# Altium schematic symbol library SG_SCH_Connectors.SchLib: 80 symbols
Pins are listed as number, name and electrical type; pins without a type are passive.

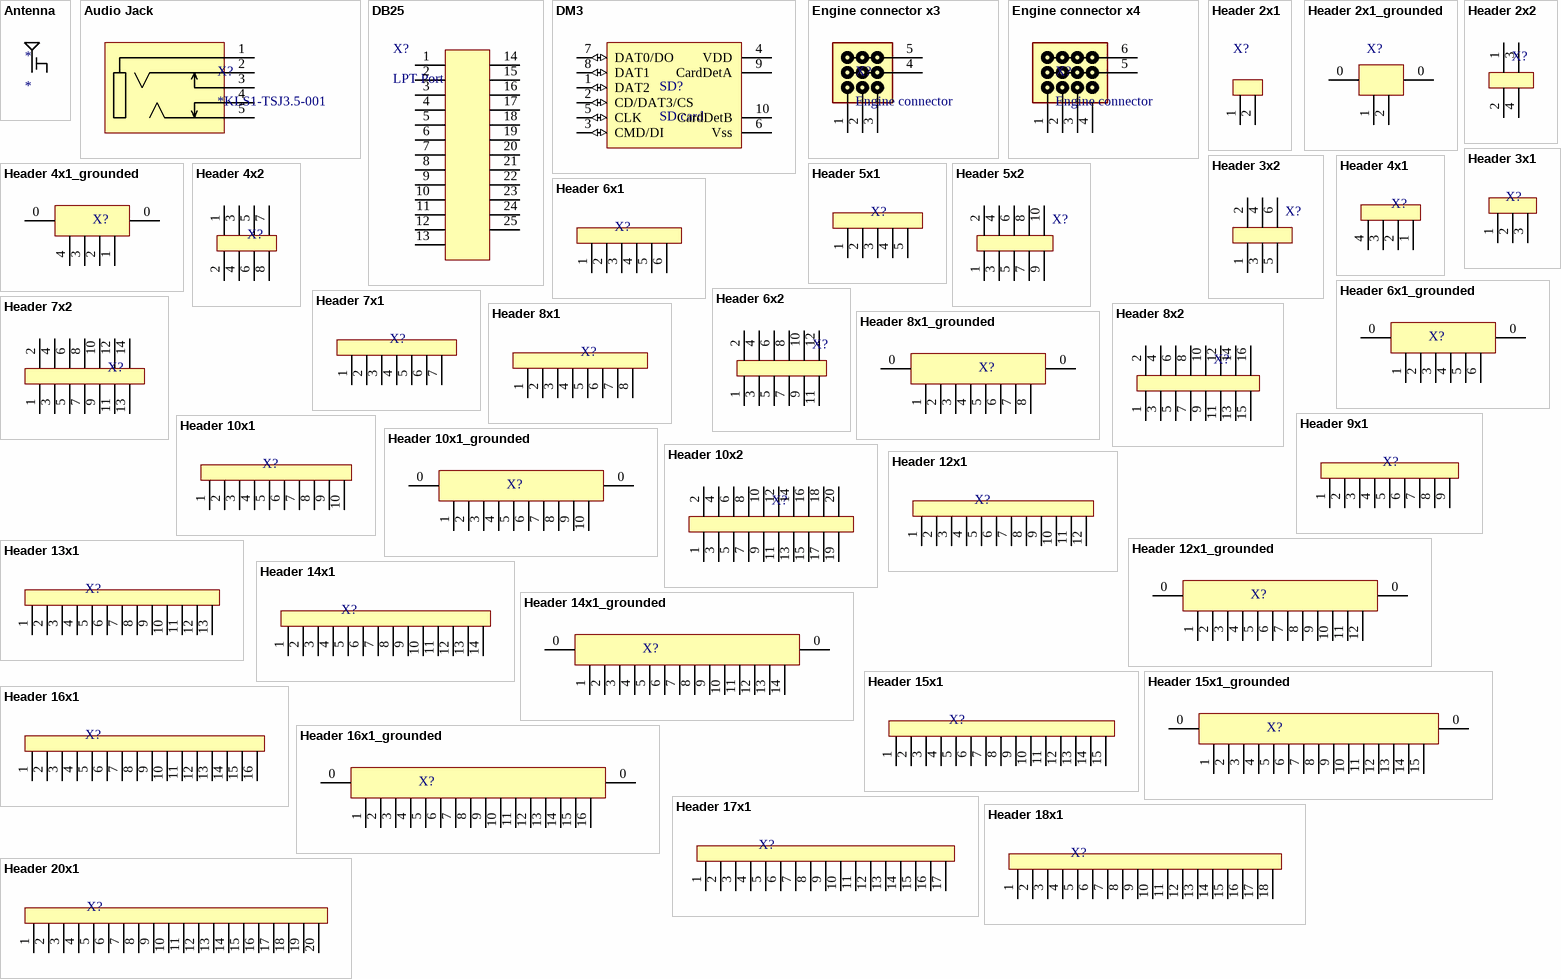
[diagram p0: symbols Antenna to Header 20x1]

## Antenna
designator *
System: Connector; Order: *
footprint SMA_F(R)
pins: 0, 1

## Audio Jack
designator X?, comment *KLS1-TSJ3.5-001
3.5mm audio jack connector; Order: *KLS1-TSJ3.5-001; System: Connector
footprint KLS1-TSJ3.5-001
pins: 1, 2, 3, 4, 5

## DB25
designator X?, comment LPT Port
Order: *DB25-M; System: Connector
footprint DB-25M(board edge)
pins: 1, 2, 3, 4, 5, 6, 7, 8, 9, 10, 11, 12, 13, 14, 15, 16, 17, 18, 19, 20, 21, 22, 23, 24, 25

## DM3
designator SD?, comment SD card
System: Connector; Order: *
footprint DM3BT
pins: 1 DAT2 (io), 2 CD/DAT3/CS (io), 3 CMD/DI (io), 4 VDD (power), 5 CLK (io), 6 Vss (power), 7 DAT0/DO (io), 8 DAT1 (io), 9 CardDetA, 10 CardDetB

## Engine connector x3
designator X?, comment Engine connector
Connector with common power and ground; Order: *; System: Connector
pins: 1, 2, 3, 4, 5

## Engine connector x4
designator X?, comment Engine connector
Connector with common power and ground; Order: *; System: Connector
footprint PLT12 (below); pin to pad 1>S1 2>S2 3>S3 4>S4 5>V 6>G
pins: 1, 2, 3, 4, 5, 6

## Header 2x1
designator X?, comment Header  (value not drawn)
2x1 header; System: Connector; Order: =Footprint
footprint PLS-2-2.54
footprint PLS2R
footprint CWF-2
footprint PLL-2-1.27 (Footprint not found)
footprint WF-2 (Footprint not found)
footprint 2.54 horizontal 2 contacts SMD
footprint MPW-2
pins: 1 (hiz), 2 (hiz)

## Header 2x1_grounded
designator X?, comment Header  (value not drawn)
2x1 header; System: Connector; Order: =Footprint
footprint PLS-2-2.54
footprint PLS2R
footprint CWF-2
footprint PLL-2-1.27 (Footprint not found)
footprint WF-2 (Footprint not found)
footprint 2.54 horizontal 2 contacts SMD
footprint MPW-2
pins: 0 (hiz), 0 (hiz), 1 (hiz), 2 (hiz)

## Header 2x2
designator X?, comment Header  (value not drawn)
2x2 header; System: Connector; Order: =Footprint
footprint PLD4
pins: 1 5 (hiz), 2 3 (hiz), 3 6 (hiz), 4 (hiz)

## Header 3x1
designator X?, comment Header  (value not drawn)
3x1 header; System: Connector; Order: =Footprint
footprint JChoice3
footprint PLS-3-2.54 (Footprint not found)
footprint CWF-3
footprint 2.54 horizontal 3 contacts SMD
pins: 1 (hiz), 2 10 (hiz), 3 11 (hiz)

## Header 3x2
designator X?, comment Header  (value not drawn)
3x2 header; System: Connector; Order: =Footprint
footprint PLD6R
pins: 1 0 (hiz), 2 (hiz), 3 (hiz), 4 (hiz), 5 (hiz), 6 (hiz)

## Header 4x1
designator X?, comment Header  (value not drawn)
4x1 header; System: Connector; Order: =Footprint
footprint PLS-4-2.54
footprint 53261-0471 (Molex PicoBlade horizontal 4p)
footprint 53398-0471 (Molex PicoBlade vertical 4p)
footprint CWF-4
footprint 2.54 horizontal 4 contacts SMD
footprint MPW-4
footprint MPW-4R
pins: 1 10 (hiz), 2 11 (hiz), 3 12 (hiz), 4 13 (hiz)

## Header 4x1_grounded
designator X?, comment Header  (value not drawn)
4x1 header; System: Connector; Order: =Footprint
footprint 53261-0471 (Molex PicoBlade horizontal 4p)
footprint 53398-0471 (Molex PicoBlade vertical 4p)
pins: 0 (hiz), 0 (hiz), 1 (hiz), 2 (hiz), 3 (hiz), 4 (hiz)

## Header 4x2
designator X?, comment Header  (value not drawn)
4x2 header; System: Connector; Order: =Footprint
footprint PLD8 (PLD8 3d up)
footprint PLD8(d) (PLD8 3d down)
pins: 1 (hiz), 2 5 (hiz), 3 2 (hiz), 4 (hiz), 5 3 (hiz), 6 7 (hiz), 7 (hiz), 8 (hiz)

## Header 5x1
designator X?, comment Header  (value not drawn)
5x1 header; System: Connector; Order: =Footprint
footprint PLS-5-2.54
footprint CWF-5
footprint 2.54 horizontal 5 contacts SMD
pins: 1 10 (hiz), 2 11 (hiz), 3 12 (hiz), 4 13 (hiz), 5 14 (hiz)

## Header 5x2
designator X?  (value not drawn)
5x2 header; System: Connector; Order: =Footprint
footprint IDC10
pins: 1 (hiz), 2 (hiz), 3 (hiz), 4 (hiz), 5 (hiz), 6 (hiz), 7 (hiz), 8 (hiz), 9 (hiz), 10 (hiz)

## Header 6x1
designator X?, comment Header  (value not drawn)
6x1 header; System: Connector; Order: =Footprint
footprint PLS-6-2.54
footprint 53261-0671 (Molex PicoBlade horizontal 6p)
footprint 53398-0671 (Molex PicoBlade horizontal 6p)
footprint 2.54 horizontal 6 contacts SMD
footprint SMDwire 2.54x3mm 6pin
footprint JST_SM06B-GHS-TB (Connector Header Surface Mount, Right Angle 6 position 1.25mm)
pins: 1 (hiz), 2 13 (hiz), 3 (hiz), 4 (hiz), 5 (hiz), 6 (hiz)

## Header 6x1_grounded
designator X?, comment Header  (value not drawn)
6x1 header; System: Connector; Order: =Footprint
footprint 53261-0671 (Molex PicoBlade horizontal 6p)
footprint 53398-0671 (Molex PicoBlade horizontal 6p)
footprint JST_SM06B-GHS-TB (Connector Header Surface Mount, Right Angle 6 position 1.25mm)
pins: 0 (hiz), 0 (hiz), 1 (hiz), 2 13 (hiz), 3 (hiz), 4 (hiz), 5 (hiz), 6 (hiz)

## Header 6x2
designator X?  (value not drawn)
6x2 header; System: Connector; Order: =Footprint
footprint Wires_6x2_5mmS_1.2mmH (Wires_AxB_XmmSpacing_YmmHole)
pins: 1 (hiz), 2 (hiz), 3 (hiz), 4 (hiz), 5 (hiz), 6 (hiz), 7 (hiz), 8 (hiz), 9 (hiz), 10 (hiz), 11 (hiz), 12 (hiz)

## Header 7x1
designator X?, comment Header  (value not drawn)
7x1 header; System: Connector; Order: =Footprint
footprint PLS-7-2.54
pins: 1 (hiz), 2 13 (hiz), 3 (hiz), 4 (hiz), 5 (hiz), 6 (hiz), 7 (hiz)

## Header 7x2
designator X?, comment Header  (value not drawn)
7x2 header; System: Connector; Order: =Footprint
footprint IDC-14MS
pins: 1 (hiz), 2 (hiz), 3 (hiz), 4 (hiz), 5 (hiz), 6 (hiz), 7 (hiz), 8 (hiz), 9 (hiz), 10 (hiz), 11 (hiz), 12 (hiz), 13 (hiz), 14 (hiz)

## Header 8x1
designator X?, comment Header  (value not drawn)
8x1 header; System: Connector; Order: =Footprint
footprint PLS-8-2.54
footprint 53261-0871 (Molex PicoBlade horizontal 8p)
footprint 53398-0871 (Molex PicoBlade vertical 8p)
pins: 1 (hiz), 2 (hiz), 3 (hiz), 4 (hiz), 5 (hiz), 6 (hiz), 7 (hiz), 8 (hiz)

## Header 8x1_grounded
designator X?, comment Header  (value not drawn)
8x1 header; System: Connector; Order: =Footprint
footprint 53261-0871 (Molex PicoBlade horizontal 8p)
footprint 53398-0871 (Molex PicoBlade vertical 8p)
pins: 0 (hiz), 0 (hiz), 1 (hiz), 2 (hiz), 3 (hiz), 4 (hiz), 5 (hiz), 6 (hiz), 7 (hiz), 8 (hiz)

## Header 8x2
designator X?  (value not drawn)
8x2 header; System: Connector; Order: =Footprint
footprint IDC16
footprint IDC16R
footprint PLD-16-2.54 (Footprint not found)
footprint 2.54 horizontal 8x2 contacts SMD
footprint 2.54 horizontal 8x2 contacts SMD no overlay
pins: 1 (hiz), 2 (hiz), 3 (hiz), 4 (hiz), 5 (hiz), 6 (hiz), 7 (hiz), 8 (hiz), 9 (hiz), 10 (hiz), 11 (hiz), 12 (hiz), 13 (hiz), 14 (hiz), 15 (hiz), 16 (hiz)

## Header 9x1
designator X?  (value not drawn)
9x1 Header; System: Connector; Order: =Footprint
footprint PLS-9-2.54
pins: 1 (hiz), 2 (hiz), 3 (hiz), 4 (hiz), 5 (hiz), 6 (hiz), 7 (hiz), 8 (hiz), 9 (hiz)

## Header 10x1
designator X?  (value not drawn)
10x1 Header; System: Connector; Order: =Footprint
footprint PLS-10-2.54
pins: 1 (hiz), 2 (hiz), 3 (hiz), 4 (hiz), 5 (hiz), 6 (hiz), 7 (hiz), 8 (hiz), 9 (hiz), 10 (hiz)

## Header 10x1_grounded
designator X?  (value not drawn)
10x1 Header; System: Connector; Order: =Footprint
footprint 53398-1071 (Molex PicoBlade horizontal 10p)
footprint 53261-1071 (Molex PicoBlade horizontal 10p)
pins: 0 (hiz), 0 (hiz), 1 (hiz), 2 (hiz), 3 (hiz), 4 (hiz), 5 (hiz), 6 (hiz), 7 (hiz), 8 (hiz), 9 (hiz), 10 (hiz)

## Header 10x2
designator X?  (value not drawn)
10x2 header; System: Connector; Order: =Footprint
footprint PLD20-2.54 (Footprint not found)
footprint IDC20
footprint IDC20R
pins: 1 (hiz), 2 (hiz), 3 (hiz), 4 (hiz), 5 (hiz), 6 (hiz), 7 (hiz), 8 (hiz), 9 (hiz), 10 (hiz), 11 (hiz), 12 (hiz), 13 (hiz), 14 (hiz), 15 (hiz), 16 (hiz), 17 (hiz), 18 (hiz), 19 (hiz), 20 (hiz)

## Header 12x1
designator X?  (value not drawn)
12x1 Header; System: Connector; Order: =Footprint
footprint PLS-12-2.54 (Footprint not found)
footprint PLL-12-1.27 (Footprint not found)
footprint 53261-1271 (Molex PicoBlade horizontal 12p)
footprint 53398-1271 (Molex PicoBlade vertical 12p)
pins: 1 (hiz), 2 (hiz), 3 (hiz), 4 (hiz), 5 (hiz), 6 (hiz), 7 (hiz), 8 (hiz), 9 (hiz), 10 (hiz), 11 (hiz), 12 (hiz)

## Header 12x1_grounded
designator X?  (value not drawn)
12x1 Header; System: Connector; Order: =Footprint
footprint 53261-1271 (Molex PicoBlade horizontal 12p)
footprint 53398-1271 (Molex PicoBlade vertical 12p)
pins: 0 (hiz), 0 (hiz), 1 (hiz), 2 (hiz), 3 (hiz), 4 (hiz), 5 (hiz), 6 (hiz), 7 (hiz), 8 (hiz), 9 (hiz), 10 (hiz), 11 (hiz), 12 (hiz)

## Header 13x1
designator X?, comment Header  (value not drawn)
13x1 Header; System: Connector; Order: =Footprint
footprint PLS-13-2.54
pins: 1 (hiz), 2 (hiz), 3 (hiz), 4 (hiz), 5 (hiz), 6 (hiz), 7 (hiz), 8 (hiz), 9 (hiz), 10 (hiz), 11 (hiz), 12 (hiz), 13 (hiz)

## Header 14x1
designator X?, comment Header  (value not drawn)
14x1 Header; System: Connector; Order: =Footprint
footprint 53261-1471 (Molex PicoBlade horizontal 14p)
pins: 1 (hiz), 2 (hiz), 3 (hiz), 4 (hiz), 5 (hiz), 6 (hiz), 7 (hiz), 8 (hiz), 9 (hiz), 10 (hiz), 11 (hiz), 12 (hiz), 13 (hiz), 14 (hiz)

## Header 14x1_grounded
designator X?, comment Header  (value not drawn)
14x1 Header; System: Connector; Order: =Footprint
footprint 53261-1471 (Molex PicoBlade horizontal 14p)
pins: 0 (hiz), 0 (hiz), 1 (hiz), 2 (hiz), 3 (hiz), 4 (hiz), 5 (hiz), 6 (hiz), 7 (hiz), 8 (hiz), 9 (hiz), 10 (hiz), 11 (hiz), 12 (hiz), 13 (hiz), 14 (hiz)

## Header 15x1
designator X?, comment Header  (value not drawn)
15x1 Header; System: Connector; Order: =Footprint
pins: 1 (hiz), 2 (hiz), 3 (hiz), 4 (hiz), 5 (hiz), 6 (hiz), 7 (hiz), 8 (hiz), 9 (hiz), 10 (hiz), 11 (hiz), 12 (hiz), 13 (hiz), 14 (hiz), 15 (hiz)

## Header 15x1_grounded
designator X?, comment Header  (value not drawn)
15x1 Header; System: Connector; Order: =Footprint
pins: 0 (hiz), 0 (hiz), 1 (hiz), 2 (hiz), 3 (hiz), 4 (hiz), 5 (hiz), 6 (hiz), 7 (hiz), 8 (hiz), 9 (hiz), 10 (hiz), 11 (hiz), 12 (hiz), 13 (hiz), 14 (hiz), 15 (hiz)

## Header 16x1
designator X?, comment Header  (value not drawn)
16x1 Header; System: Connector; Order: =Footprint
footprint Wires_16x1_2.54mmS_0.9mmH
footprint PLS-16-2.54
pins: 1 (hiz), 2 (hiz), 3 (hiz), 4 (hiz), 5 (hiz), 6 (hiz), 7 (hiz), 8 (hiz), 9 (hiz), 10 (hiz), 11 (hiz), 12 (hiz), 13 (hiz), 14 (hiz), 15 (hiz), 16 (hiz)

## Header 16x1_grounded
designator X?, comment Header  (value not drawn)
16x1 Header; System: Connector; Order: =Footprint
pins: 0 (hiz), 0 (hiz), 1 (hiz), 2 (hiz), 3 (hiz), 4 (hiz), 5 (hiz), 6 (hiz), 7 (hiz), 8 (hiz), 9 (hiz), 10 (hiz), 11 (hiz), 12 (hiz), 13 (hiz), 14 (hiz), 15 (hiz), 16 (hiz)

## Header 17x1
designator X?  (value not drawn)
17x1 Header; System: Connector; Order: =Footprint
footprint PLS-17-2.54 (Footprint not found)
pins: 1 (hiz), 2 (hiz), 3 (hiz), 4 (hiz), 5 (hiz), 6 (hiz), 7 (hiz), 8 (hiz), 9 (hiz), 10 (hiz), 11 (hiz), 12 (hiz), 13 (hiz), 14 (hiz), 15 (hiz), 16 (hiz), 17 (hiz)

## Header 18x1
designator X?  (value not drawn)
18x1 Header; System: Connector; Order: =Footprint
footprint PLS-18-2.54 (Footprint not found)
pins: 1 (hiz), 2 (hiz), 3 (hiz), 4 (hiz), 5 (hiz), 6 (hiz), 7 (hiz), 8 (hiz), 9 (hiz), 10 (hiz), 11 (hiz), 12 (hiz), 13 (hiz), 14 (hiz), 15 (hiz), 16 (hiz), 17 (hiz), 18 (hiz)

## Header 20x1
designator X?  (value not drawn)
20x1 Header; System: Connector; Order: =Footprint
footprint PLS-20-2.54
pins: 1 (hiz), 2 (hiz), 3 (hiz), 4 (hiz), 5 (hiz), 6 (hiz), 7 (hiz), 8 (hiz), 9 (hiz), 10 (hiz), 11 (hiz), 12 (hiz), 13 (hiz), 14 (hiz), 15 (hiz), 16 (hiz), 17 (hiz), 18 (hiz), 19 (hiz), 20 (hiz)

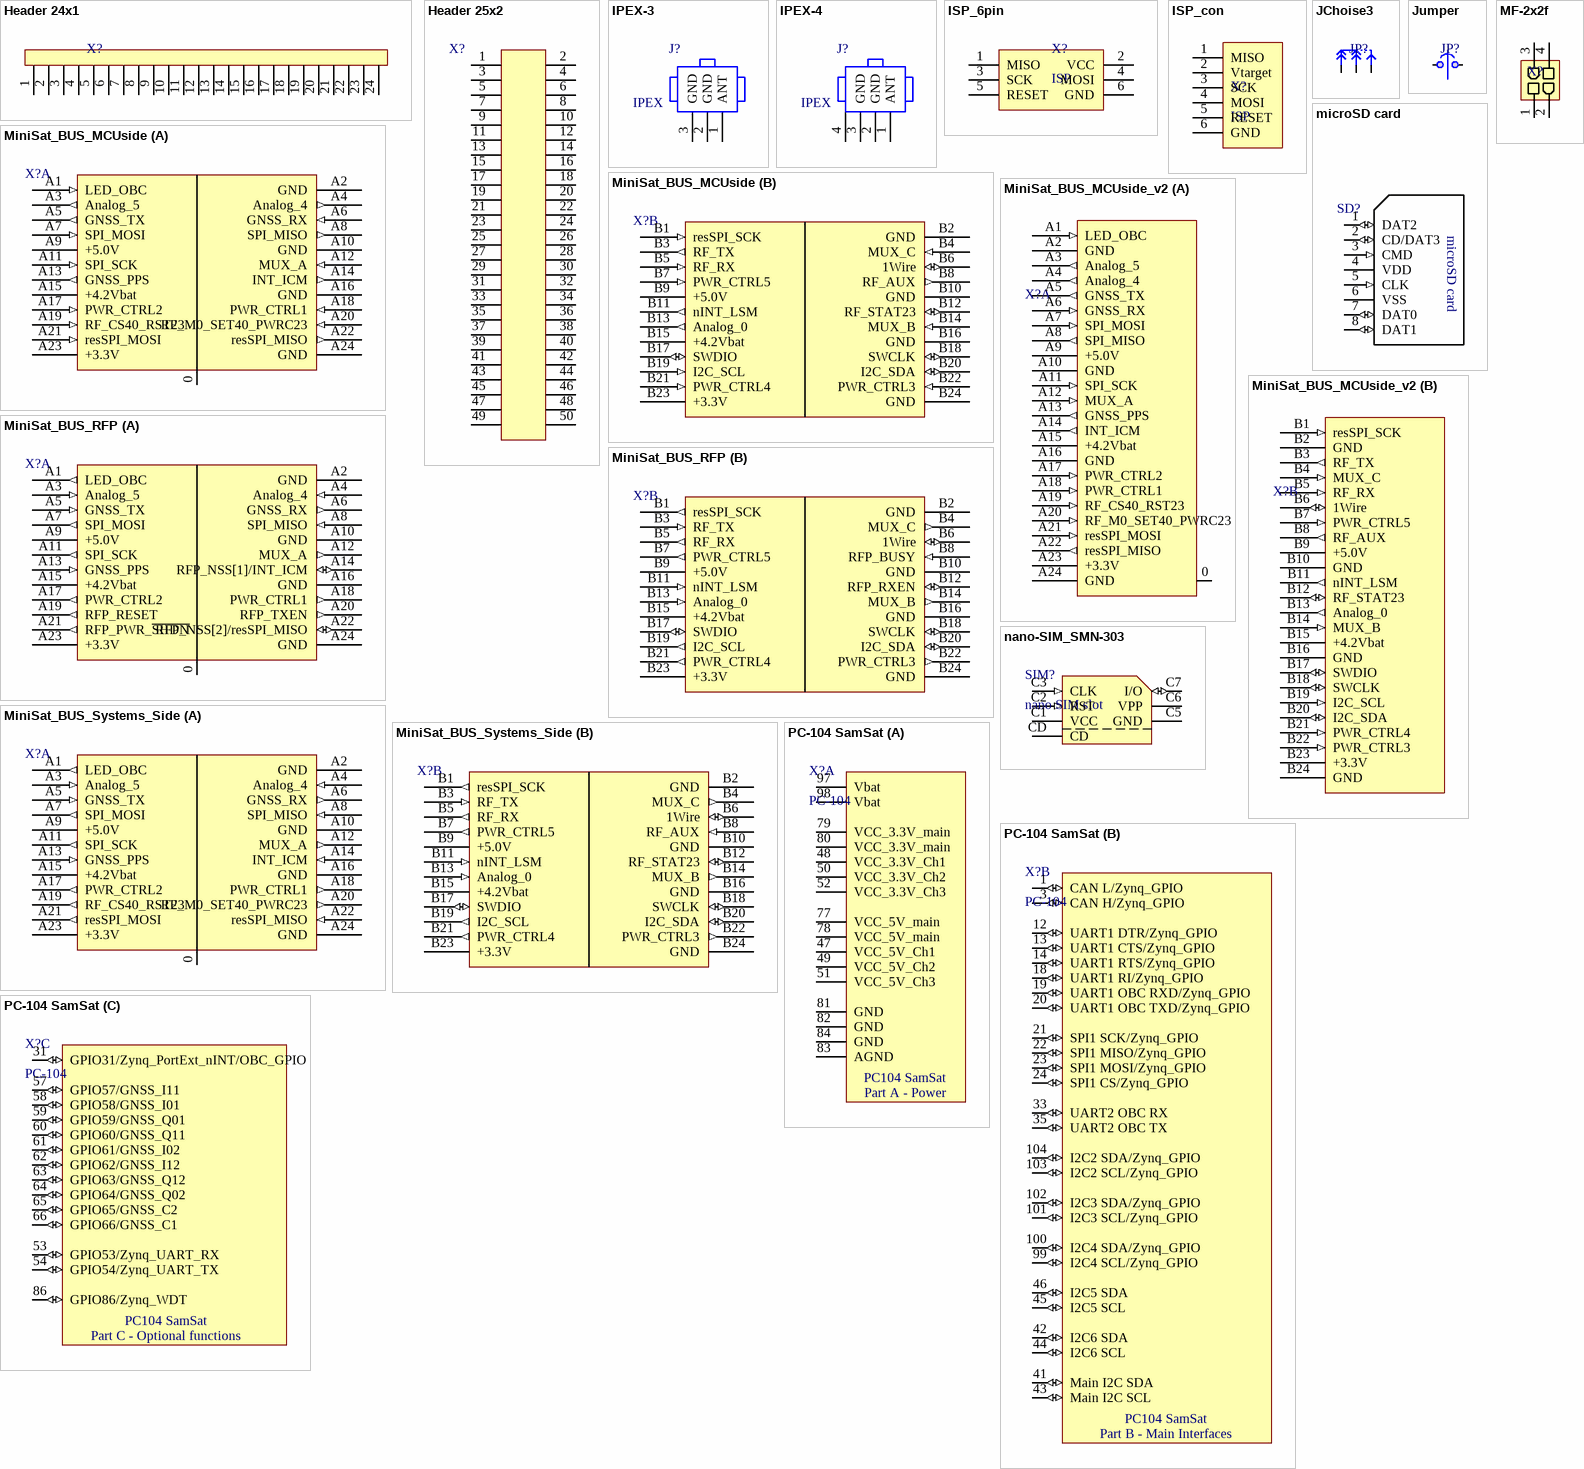
[diagram p1: symbols Header 24x1 to PC-104 SamSat]

## Header 24x1
designator X?  (value not drawn)
20x1 Header; System: Connector; Order: =Footprint
footprint PLS-24-2.54 (Footprint not found)
footprint MiniSat_Maket_side
pins: 1 (hiz), 2 (hiz), 3 (hiz), 4 (hiz), 5 (hiz), 6 (hiz), 7 (hiz), 8 (hiz), 9 (hiz), 10 (hiz), 11 (hiz), 12 (hiz), 13 (hiz), 14 (hiz), 15 (hiz), 16 (hiz), 17 (hiz), 18 (hiz), 19 (hiz), 20 (hiz), 21 (hiz), 22 (hiz), 23 (hiz), 24 (hiz)

## Header 25x2
designator X?  (value not drawn)
25x2 header; System: Connector; Order: =Footprint
pins: 1 (hiz), 2 (hiz), 3 (hiz), 4 (hiz), 5 (hiz), 6 (hiz), 7 (hiz), 8 (hiz), 9 (hiz), 10 (hiz), 11 (hiz), 12 (hiz), 13 (hiz), 14 (hiz), 15 (hiz), 16 (hiz), 17 (hiz), 18 (hiz), 19 (hiz), 20 (hiz), 21 (hiz), 22 (hiz), 23 (hiz), 24 (hiz), 25 (hiz), 26 (hiz), 27 (hiz), 28 (hiz), 29 (hiz), 30 (hiz), 31 (hiz), 32 (hiz), 33 (hiz), 34 (hiz), 35 (hiz), 36 (hiz), 37 (hiz), 38 (hiz), 39 (hiz), 40 (hiz), 41 (hiz), 42 (hiz), 43 (hiz), 44 (hiz), 45 (hiz), 46 (hiz), 47 (hiz), 48 (hiz), 49 (hiz), 50 (hiz)

## IPEX-3
designator J?, comment IPEX
RF Connector, Onboard Receptacle, IPEX MHFIII; HelpURL: http://www.taoglas.com/images/product_images/original_images/RECE.20369.001E.01.pdf; Order: *; System: Connector
footprint IPEX-3 (Hand Drawn, 4-Leads, Body 1.7x1.7mm)
pins: 1 ANT, 2 GND, 3 GND

## IPEX-4
designator J?, comment IPEX
RF Connector, Onboard Receptacle, IPEX MHFIII; HelpURL: http://www.taoglas.com/images/product_images/original_images/RECE.20369.001E.01.pdf; Order: *; System: Connector
footprint IPEX-4 (Hand Drawn, 4-Leads, Body 1.7x1.7mm)
pins: 1 ANT, 2 GND, 3 GND, 4

## ISP_6pin
designator X?, comment ISP
ISP programming connector; Order: *IDC6-MS; System: Connector
footprint IDC-6MS
pins: 1 MISO, 2 VCC, 3 SCK, 4 MOSI, 5 RESET, 6 GND

## ISP_con
designator X?, comment ISP
3x2 header for ISP; System: Connector; Order: *
footprint IDC6
pins: 1 MISO, 2 Vtarget, 3 SCK, 4 MOSI, 5 RESET, 6 GND

## JChoise3
designator JP?
Header 3x1 with jumper; System: Connector; Order: *
footprint JChoice3
pins: 1 21, 2 22, 3 23

## Jumper
designator JP?  (value not drawn)
System: Connector; Order: *
footprint PLS-2-2.54
footprint J-0603
footprint J-0402
footprint J-0805
pins: 1 6 (hiz), 2 7 (hiz)

## MF-2x2f
designator X?  (value not drawn)
System: Connector; Order: *
pins: 1 (hiz), 2 (hiz), 3 (hiz), 4 (hiz)

## microSD card
designator SD?, comment uSD CARD  (value not drawn)
uSD CARD SLOT; System: Connector; Order: *
pins: 1 DAT2 (io), 2 CD/DAT3 (io), 3 CMD (in), 4 VDD (power), 5 CLK (in), 6 VSS (power), 7 DAT0 (io), 8 DAT1 (io)

## MiniSat_BUS_MCUside
designator X?, comment MiniSat main bus  (value not drawn)  (no BOM)
Order: *MiniSatConnectors*; System: Connector
footprint MiniSatConnector
part A pins: 0 GND, A1 LED_OBC (in), A2 GND (power), A3 Analog_5 (out), A4 Analog_4 (out), A5 GNSS_TX (out), A6 GNSS_RX (in), A7 SPI_MOSI (in), A8 SPI_MISO (out), A9 +5.0V (power), A10 GND (power), A11 SPI_SCK (in), A12 MUX_A (in), A13 GNSS_PPS (out), A14 INT_ICM (out), A15 +4.2Vbat (power), A16 GND (power), A17 PWR_CTRL2 (in), A18 PWR_CTRL1 (in), A19 RF_CS40_RST23 (in), A20 RF_M0_SET40_PWRC23 (in), A21 resSPI_MOSI (in), A22 resSPI_MISO (out), A23 +3.3V (power), A24 GND (power)
part B pins: B1 resSPI_SCK (in), B2 GND (power), B3 RF_TX (out), B4 MUX_C (in), B5 RF_RX (in), B6 1Wire (io), B7 PWR_CTRL5 (in), B8 RF_AUX (out), B9 +5.0V (power), B10 GND (power), B11 nINT_LSM (out), B12 RF_STAT23 (io), B13 Analog_0 (out), B14 MUX_B (in), B15 +4.2Vbat (power), B16 GND (power), B17 SWDIO (io), B18 SWCLK (io), B19 I2C_SCL (in), B20 I2C_SDA (io), B21 PWR_CTRL4 (in), B22 PWR_CTRL3 (in), B23 +3.3V (power), B24 GND (power)

## MiniSat_BUS_MCUside_v2
designator X?, comment MiniSat main bus  (value not drawn)  (no BOM)
Order: *MiniSatConnectors*; System: Connector
footprint MiniSatConnector
part A pins: 0 GND, A1 LED_OBC (in), A2 GND (power), A3 Analog_5 (out), A4 Analog_4 (out), A5 GNSS_TX (out), A6 GNSS_RX (in), A7 SPI_MOSI (in), A8 SPI_MISO (out), A9 +5.0V (power), A10 GND (power), A11 SPI_SCK (in), A12 MUX_A (in), A13 GNSS_PPS (out), A14 INT_ICM (out), A15 +4.2Vbat (power), A16 GND (power), A17 PWR_CTRL2 (in), A18 PWR_CTRL1 (in), A19 RF_CS40_RST23 (in), A20 RF_M0_SET40_PWRC23 (in), A21 resSPI_MOSI (in), A22 resSPI_MISO (out), A23 +3.3V (power), A24 GND (power)
part B pins: B1 resSPI_SCK (in), B2 GND (power), B3 RF_TX (out), B4 MUX_C (in), B5 RF_RX (in), B6 1Wire (io), B7 PWR_CTRL5 (in), B8 RF_AUX (out), B9 +5.0V (power), B10 GND (power), B11 nINT_LSM (out), B12 RF_STAT23 (io), B13 Analog_0 (out), B14 MUX_B (in), B15 +4.2Vbat (power), B16 GND (power), B17 SWDIO (io), B18 SWCLK (io), B19 I2C_SCL (in), B20 I2C_SDA (io), B21 PWR_CTRL4 (in), B22 PWR_CTRL3 (in), B23 +3.3V (power), B24 GND (power)

## MiniSat_BUS_RFP
designator X?, comment MiniSat main bus  (value not drawn)  (no BOM)
Order: *MiniSatConnectors*; System: Connector
footprint MiniSatConnector
part A pins: 0 GND, A1 LED_OBC (out), A2 GND (power), A3 Analog_5 (in), A4 Analog_4 (in), A5 GNSS_TX (in), A6 GNSS_RX (out), A7 SPI_MOSI (out), A8 SPI_MISO (in), A9 +5.0V (power), A10 GND (power), A11 SPI_SCK (out), A12 MUX_A (out), A13 GNSS_PPS (in), A14 RFP_NSS[1]/INT_ICM (io), A15 +4.2Vbat (power), A16 GND (power), A17 PWR_CTRL2 (out), A18 PWR_CTRL1 (out), A19 RFP_RESET (out), A20 RFP_TXEN (out), A21 RFP_PWR_~{SHDN} (out), A22 RFP_NSS[2]/resSPI_MISO (io), A23 +3.3V (power), A24 GND (power)
part B pins: B1 resSPI_SCK (out), B2 GND (power), B3 RF_TX (in), B4 MUX_C (out), B5 RF_RX (out), B6 1Wire (io), B7 PWR_CTRL5 (out), B8 RFP_BUSY (in), B9 +5.0V (power), B10 GND (power), B11 nINT_LSM (in), B12 RFP_RXEN (io), B13 Analog_0 (in), B14 MUX_B (out), B15 +4.2Vbat (power), B16 GND (power), B17 SWDIO (io), B18 SWCLK (io), B19 I2C_SCL (out), B20 I2C_SDA (io), B21 PWR_CTRL4 (out), B22 PWR_CTRL3 (out), B23 +3.3V (power), B24 GND (power)

## MiniSat_BUS_Systems_Side
designator X?, comment MiniSat main bus  (value not drawn)  (no BOM)
Order: *MiniSatConnectors*; System: Connector
footprint MiniSatConnector
part A pins: 0 GND, A1 LED_OBC (out), A2 GND (power), A3 Analog_5 (in), A4 Analog_4 (in), A5 GNSS_TX (in), A6 GNSS_RX (out), A7 SPI_MOSI (out), A8 SPI_MISO (in), A9 +5.0V (power), A10 GND (power), A11 SPI_SCK (out), A12 MUX_A (out), A13 GNSS_PPS (in), A14 INT_ICM (in), A15 +4.2Vbat (power), A16 GND (power), A17 PWR_CTRL2 (out), A18 PWR_CTRL1 (out), A19 RF_CS40_RST23 (out), A20 RF_M0_SET40_PWRC23 (out), A21 resSPI_MOSI (out), A22 resSPI_MISO (in), A23 +3.3V (power), A24 GND (power)
part B pins: B1 resSPI_SCK (out), B2 GND (power), B3 RF_TX (in), B4 MUX_C (out), B5 RF_RX (out), B6 1Wire (io), B7 PWR_CTRL5 (out), B8 RF_AUX (in), B9 +5.0V (power), B10 GND (power), B11 nINT_LSM (in), B12 RF_STAT23 (io), B13 Analog_0 (in), B14 MUX_B (out), B15 +4.2Vbat (power), B16 GND (power), B17 SWDIO (io), B18 SWCLK (io), B19 I2C_SCL (out), B20 I2C_SDA (io), B21 PWR_CTRL4 (out), B22 PWR_CTRL3 (out), B23 +3.3V (power), B24 GND (power)

## nano-SIM_SMN-303
designator SIM?, comment nano SIM slot
System: Connector; Order: *
pins: C1 VCC (power), C2 RST (in), C3 CLK (in), C5 GND (power), C6 VPP (power), C7 I/O (io), CD (oc)

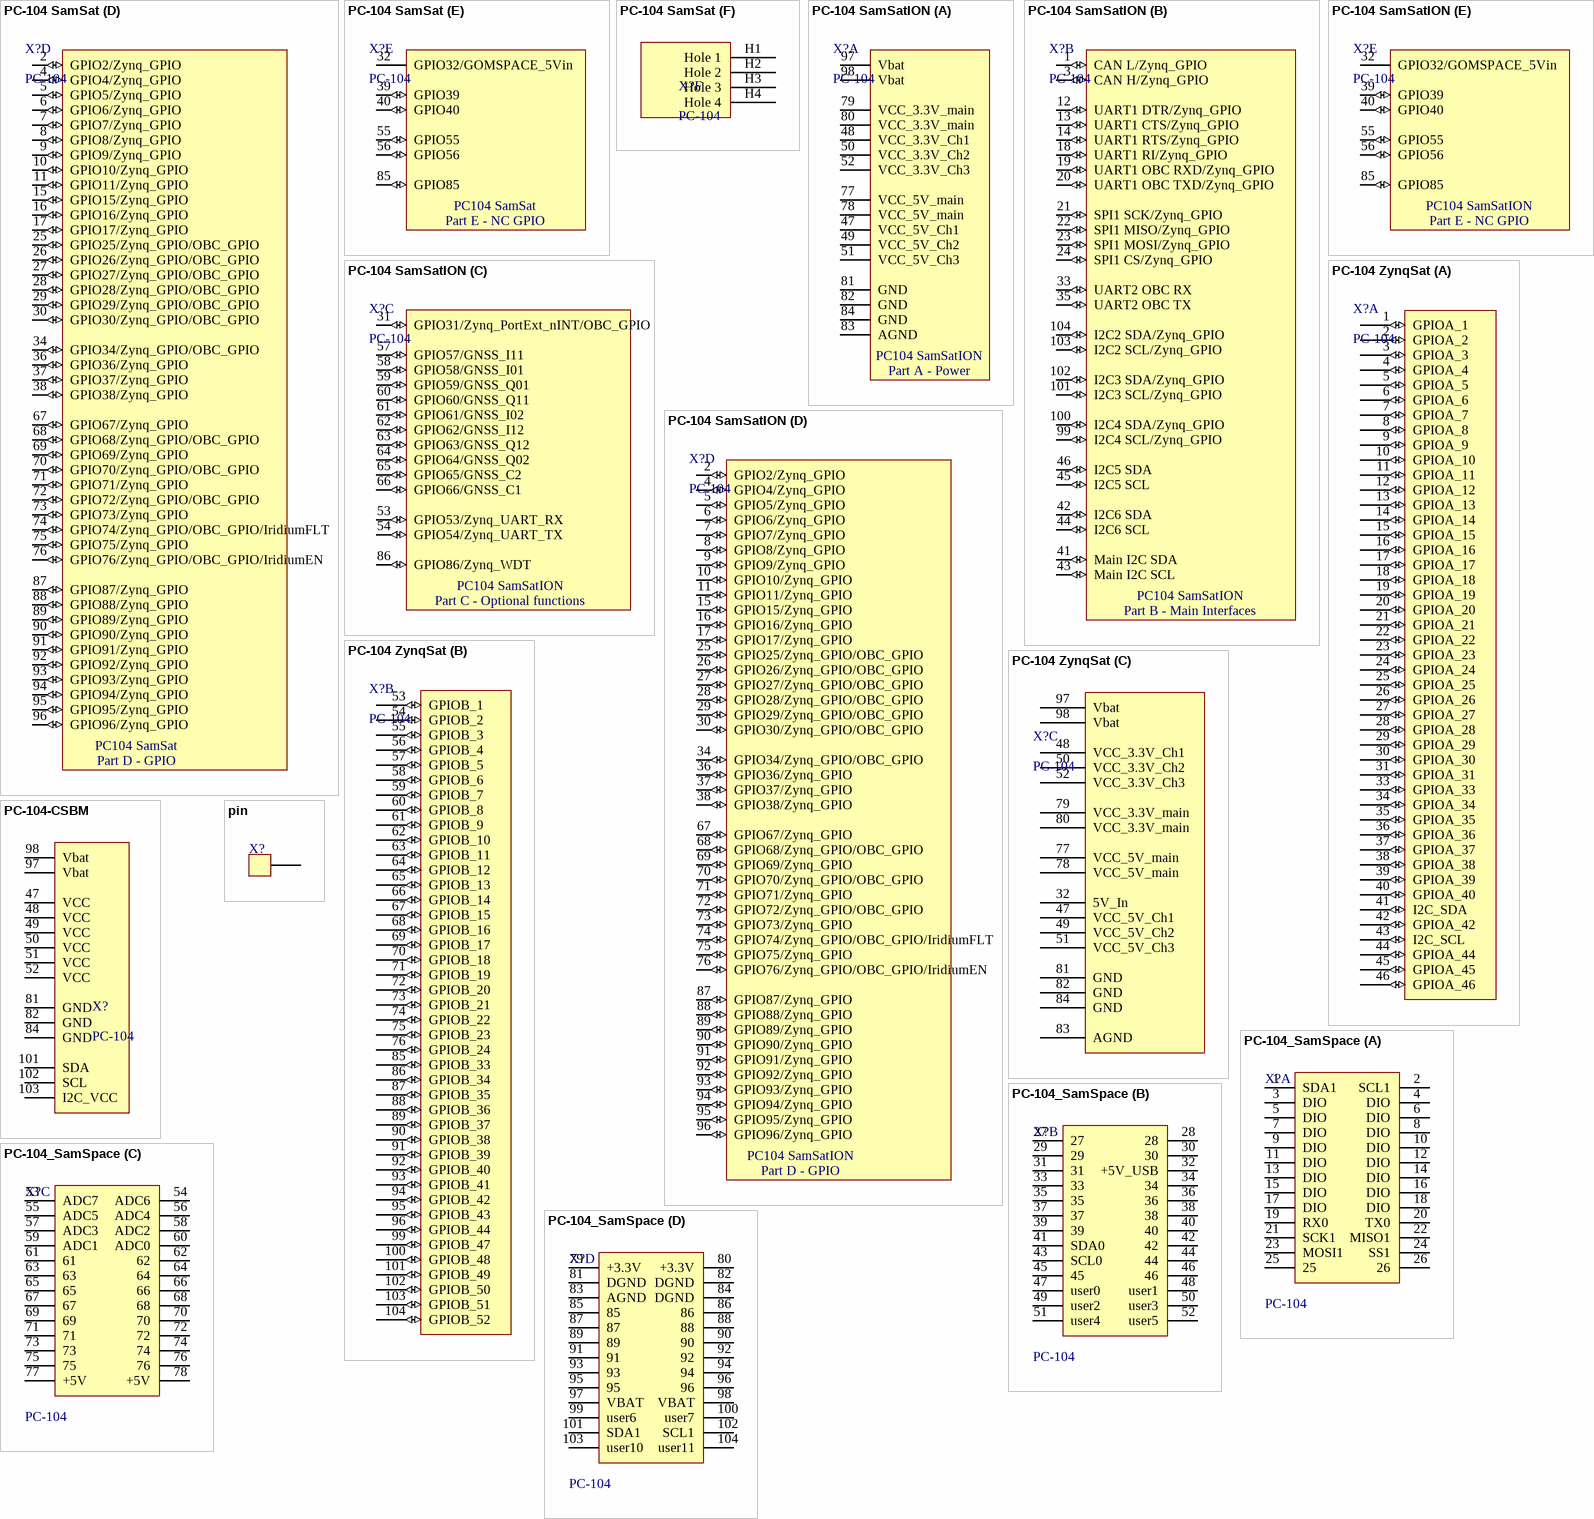
[diagram p2: symbols PC-104 SamSat to pin]

## PC-104 SamSat
designator X?, comment PC-104
Order: *ESQ-126-39-G-D; System: Connector
footprint PC-104 (PC104)
footprint SamSat-PC104
footprint SamSat-PC104-BottomOnly
footprint SamSat-PC104-TopOnly
part A pins: 47 VCC_5V_Ch1 (power), 48 VCC_3.3V_Ch1 (power), 49 VCC_5V_Ch2 (power), 50 VCC_3.3V_Ch2 (power), 51 VCC_5V_Ch3 (power), 52 VCC_3.3V_Ch3 (power), 77 VCC_5V_main (power), 78 VCC_5V_main (power), 79 VCC_3.3V_main (power), 80 VCC_3.3V_main (power), 81 GND (power), 82 GND (power), 83 AGND (power), 84 GND (power), 97 Vbat (power), 98 Vbat (power)
part B pins: 1 CAN L/Zynq_GPIO (io), 3 CAN H/Zynq_GPIO (io), 12 UART1 DTR/Zynq_GPIO (io), 13 UART1 CTS/Zynq_GPIO (io), 14 UART1 RTS/Zynq_GPIO (io), 18 UART1 RI/Zynq_GPIO (io), 19 UART1 OBC RXD/Zynq_GPIO (io), 20 UART1 OBC TXD/Zynq_GPIO (io), 21 SPI1 SCK/Zynq_GPIO (io), 22 SPI1 MISO/Zynq_GPIO (io), 23 SPI1 MOSI/Zynq_GPIO (io), 24 SPI1 CS/Zynq_GPIO (io), 33 UART2 OBC RX (io), 35 UART2 OBC TX (io), 41 Main I2C SDA (io), 42 I2C6 SDA (io), 43 Main I2C SCL (io), 44 I2C6 SCL (io), 45 I2C5 SCL (io), 46 I2C5 SDA (io), 99 I2C4 SCL/Zynq_GPIO (io), 100 I2C4 SDA/Zynq_GPIO (io), 101 I2C3 SCL/Zynq_GPIO (io), 102 I2C3 SDA/Zynq_GPIO (io), 103 I2C2 SCL/Zynq_GPIO (io), 104 I2C2 SDA/Zynq_GPIO (io)
part C pins: 31 GPIO31/Zynq_PortExt_nINT/OBC_GPIO (io), 53 GPIO53/Zynq_UART_RX (io), 54 GPIO54/Zynq_UART_TX (io), 57 GPIO57/GNSS_I11 (io), 58 GPIO58/GNSS_I01 (io), 59 GPIO59/GNSS_Q01 (io), 60 GPIO60/GNSS_Q11 (io), 61 GPIO61/GNSS_I02 (io), 62 GPIO62/GNSS_I12 (io), 63 GPIO63/GNSS_Q12 (io), 64 GPIO64/GNSS_Q02 (io), 65 GPIO65/GNSS_C2 (io), 66 GPIO66/GNSS_C1 (io), 86 GPIO86/Zynq_WDT (io)
part D pins: 2 GPIO2/Zynq_GPIO (io), 4 GPIO4/Zynq_GPIO (io), 5 GPIO5/Zynq_GPIO (io), 6 GPIO6/Zynq_GPIO (io), 7 GPIO7/Zynq_GPIO (io), 8 GPIO8/Zynq_GPIO (io), 9 GPIO9/Zynq_GPIO (io), 10 GPIO10/Zynq_GPIO (io), 11 GPIO11/Zynq_GPIO (io), 15 GPIO15/Zynq_GPIO (io), 16 GPIO16/Zynq_GPIO (io), 17 GPIO17/Zynq_GPIO (io), 25 GPIO25/Zynq_GPIO/OBC_GPIO (io), 26 GPIO26/Zynq_GPIO/OBC_GPIO (io), 27 GPIO27/Zynq_GPIO/OBC_GPIO (io), 28 GPIO28/Zynq_GPIO/OBC_GPIO (io), 29 GPIO29/Zynq_GPIO/OBC_GPIO (io), 30 GPIO30/Zynq_GPIO/OBC_GPIO (io), 34 GPIO34/Zynq_GPIO/OBC_GPIO (io), 36 GPIO36/Zynq_GPIO (io), 37 GPIO37/Zynq_GPIO (io), 38 GPIO38/Zynq_GPIO (io), 67 GPIO67/Zynq_GPIO (io), 68 GPIO68/Zynq_GPIO/OBC_GPIO (io), 69 GPIO69/Zynq_GPIO (io), 70 GPIO70/Zynq_GPIO/OBC_GPIO (io), 71 GPIO71/Zynq_GPIO (io), 72 GPIO72/Zynq_GPIO/OBC_GPIO (io), 73 GPIO73/Zynq_GPIO (io), 74 GPIO74/Zynq_GPIO/OBC_GPIO/IridiumFLT (io), 75 GPIO75/Zynq_GPIO (io), 76 GPIO76/Zynq_GPIO/OBC_GPIO/IridiumEN (io), 87 GPIO87/Zynq_GPIO (io), 88 GPIO88/Zynq_GPIO (io), 89 GPIO89/Zynq_GPIO (io), 90 GPIO90/Zynq_GPIO (io), 91 GPIO91/Zynq_GPIO (io), 92 GPIO92/Zynq_GPIO (io), 93 GPIO93/Zynq_GPIO (io), 94 GPIO94/Zynq_GPIO (io), 95 GPIO95/Zynq_GPIO (io), 96 GPIO96/Zynq_GPIO (io)
part E pins: 32 GPIO32/GOMSPACE_5Vin (power), 39 GPIO39 (io), 40 GPIO40 (io), 55 GPIO55 (io), 56 GPIO56 (io), 85 GPIO85 (io)
part F pins: H1 Hole 1 (power), H2 Hole 2 (power), H3 Hole 3 (power), H4 Hole 4 (power)
part A text: PC104 SamSat; Part A - Power
part B text: PC104 SamSat; Part B - Main Interfaces
part C text: PC104 SamSat; Part C - Optional functions
part D text: PC104 SamSat; Part D - GPIO
part E text: PC104 SamSat; Part E - NC GPIO

## PC-104 SamSatION
designator X?, comment PC-104
Order: *ESQ-126-39-G-D; System: Connector
footprint PC-104 (PC104)
part A pins: 47 VCC_5V_Ch1 (power), 48 VCC_3.3V_Ch1 (power), 49 VCC_5V_Ch2 (power), 50 VCC_3.3V_Ch2 (power), 51 VCC_5V_Ch3 (power), 52 VCC_3.3V_Ch3 (power), 77 VCC_5V_main (power), 78 VCC_5V_main (power), 79 VCC_3.3V_main (power), 80 VCC_3.3V_main (power), 81 GND (power), 82 GND (power), 83 AGND (power), 84 GND (power), 97 Vbat (power), 98 Vbat (power)
part B pins: 1 CAN L/Zynq_GPIO (io), 3 CAN H/Zynq_GPIO (io), 12 UART1 DTR/Zynq_GPIO (io), 13 UART1 CTS/Zynq_GPIO (io), 14 UART1 RTS/Zynq_GPIO (io), 18 UART1 RI/Zynq_GPIO (io), 19 UART1 OBC RXD/Zynq_GPIO (io), 20 UART1 OBC TXD/Zynq_GPIO (io), 21 SPI1 SCK/Zynq_GPIO (io), 22 SPI1 MISO/Zynq_GPIO (io), 23 SPI1 MOSI/Zynq_GPIO (io), 24 SPI1 CS/Zynq_GPIO (io), 33 UART2 OBC RX (io), 35 UART2 OBC TX (io), 41 Main I2C SDA (io), 42 I2C6 SDA (io), 43 Main I2C SCL (io), 44 I2C6 SCL (io), 45 I2C5 SCL (io), 46 I2C5 SDA (io), 99 I2C4 SCL/Zynq_GPIO (io), 100 I2C4 SDA/Zynq_GPIO (io), 101 I2C3 SCL/Zynq_GPIO (io), 102 I2C3 SDA/Zynq_GPIO (io), 103 I2C2 SCL/Zynq_GPIO (io), 104 I2C2 SDA/Zynq_GPIO (io)
part C pins: 31 GPIO31/Zynq_PortExt_nINT/OBC_GPIO (io), 53 GPIO53/Zynq_UART_RX (io), 54 GPIO54/Zynq_UART_TX (io), 57 GPIO57/GNSS_I11 (io), 58 GPIO58/GNSS_I01 (io), 59 GPIO59/GNSS_Q01 (io), 60 GPIO60/GNSS_Q11 (io), 61 GPIO61/GNSS_I02 (io), 62 GPIO62/GNSS_I12 (io), 63 GPIO63/GNSS_Q12 (io), 64 GPIO64/GNSS_Q02 (io), 65 GPIO65/GNSS_C2 (io), 66 GPIO66/GNSS_C1 (io), 86 GPIO86/Zynq_WDT (io)
part D pins: 2 GPIO2/Zynq_GPIO (io), 4 GPIO4/Zynq_GPIO (io), 5 GPIO5/Zynq_GPIO (io), 6 GPIO6/Zynq_GPIO (io), 7 GPIO7/Zynq_GPIO (io), 8 GPIO8/Zynq_GPIO (io), 9 GPIO9/Zynq_GPIO (io), 10 GPIO10/Zynq_GPIO (io), 11 GPIO11/Zynq_GPIO (io), 15 GPIO15/Zynq_GPIO (io), 16 GPIO16/Zynq_GPIO (io), 17 GPIO17/Zynq_GPIO (io), 25 GPIO25/Zynq_GPIO/OBC_GPIO (io), 26 GPIO26/Zynq_GPIO/OBC_GPIO (io), 27 GPIO27/Zynq_GPIO/OBC_GPIO (io), 28 GPIO28/Zynq_GPIO/OBC_GPIO (io), 29 GPIO29/Zynq_GPIO/OBC_GPIO (io), 30 GPIO30/Zynq_GPIO/OBC_GPIO (io), 34 GPIO34/Zynq_GPIO/OBC_GPIO (io), 36 GPIO36/Zynq_GPIO (io), 37 GPIO37/Zynq_GPIO (io), 38 GPIO38/Zynq_GPIO (io), 67 GPIO67/Zynq_GPIO (io), 68 GPIO68/Zynq_GPIO/OBC_GPIO (io), 69 GPIO69/Zynq_GPIO (io), 70 GPIO70/Zynq_GPIO/OBC_GPIO (io), 71 GPIO71/Zynq_GPIO (io), 72 GPIO72/Zynq_GPIO/OBC_GPIO (io), 73 GPIO73/Zynq_GPIO (io), 74 GPIO74/Zynq_GPIO/OBC_GPIO/IridiumFLT (io), 75 GPIO75/Zynq_GPIO (io), 76 GPIO76/Zynq_GPIO/OBC_GPIO/IridiumEN (io), 87 GPIO87/Zynq_GPIO (io), 88 GPIO88/Zynq_GPIO (io), 89 GPIO89/Zynq_GPIO (io), 90 GPIO90/Zynq_GPIO (io), 91 GPIO91/Zynq_GPIO (io), 92 GPIO92/Zynq_GPIO (io), 93 GPIO93/Zynq_GPIO (io), 94 GPIO94/Zynq_GPIO (io), 95 GPIO95/Zynq_GPIO (io), 96 GPIO96/Zynq_GPIO (io)
part E pins: 32 GPIO32/GOMSPACE_5Vin (power), 39 GPIO39 (io), 40 GPIO40 (io), 55 GPIO55 (io), 56 GPIO56 (io), 85 GPIO85 (io)
part A text: PC104 SamSatION; Part A - Power
part B text: PC104 SamSatION; Part B - Main Interfaces
part C text: PC104 SamSatION; Part C - Optional functions
part D text: PC104 SamSatION; Part D - GPIO
part E text: PC104 SamSatION; Part E - NC GPIO

## PC-104 ZynqSat
designator X?, comment PC-104
Order: *ESQ-126-39-G-D; System: Connector
part A pins: 1 GPIOA_1 (io), 2 GPIOA_2 (io), 3 GPIOA_3 (io), 4 GPIOA_4 (io), 5 GPIOA_5 (io), 6 GPIOA_6 (io), 7 GPIOA_7 (io), 8 GPIOA_8 (io), 9 GPIOA_9 (io), 10 GPIOA_10 (io), 11 GPIOA_11 (io), 12 GPIOA_12 (io), 13 GPIOA_13 (io), 14 GPIOA_14 (io), 15 GPIOA_15 (io), 16 GPIOA_16 (io), 17 GPIOA_17 (io), 18 GPIOA_18 (io), 19 GPIOA_19 (io), 20 GPIOA_20 (io), 21 GPIOA_21 (io), 22 GPIOA_22 (io), 23 GPIOA_23 (io), 24 GPIOA_24 (io), 25 GPIOA_25 (io), 26 GPIOA_26 (io), 27 GPIOA_27 (io), 28 GPIOA_28 (io), 29 GPIOA_29 (io), 30 GPIOA_30 (io), 31 GPIOA_31 (io), 33 GPIOA_33 (io), 34 GPIOA_34 (io), 35 GPIOA_35 (io), 36 GPIOA_36 (io), 37 GPIOA_37 (io), 38 GPIOA_38 (io), 39 GPIOA_39 (io), 40 GPIOA_40 (io), 41 I2C_SDA (io), 42 GPIOA_42 (io), 43 I2C_SCL (io), 44 GPIOA_44 (io), 45 GPIOA_45 (io), 46 GPIOA_46 (io)
part B pins: 53 GPIOB_1 (io), 54 GPIOB_2 (io), 55 GPIOB_3 (io), 56 GPIOB_4 (io), 57 GPIOB_5 (io), 58 GPIOB_6 (io), 59 GPIOB_7 (io), 60 GPIOB_8 (io), 61 GPIOB_9 (io), 62 GPIOB_10 (io), 63 GPIOB_11 (io), 64 GPIOB_12 (io), 65 GPIOB_13 (io), 66 GPIOB_14 (io), 67 GPIOB_15 (io), 68 GPIOB_16 (io), 69 GPIOB_17 (io), 70 GPIOB_18 (io), 71 GPIOB_19 (io), 72 GPIOB_20 (io), 73 GPIOB_21 (io), 74 GPIOB_22 (io), 75 GPIOB_23 (io), 76 GPIOB_24 (io), 85 GPIOB_33 (io), 86 GPIOB_34 (io), 87 GPIOB_35 (io), 88 GPIOB_36 (io), 89 GPIOB_37 (io), 90 GPIOB_38 (io), 91 GPIOB_39 (io), 92 GPIOB_40 (io), 93 GPIOB_41 (io), 94 GPIOB_42 (io), 95 GPIOB_43 (io), 96 GPIOB_44 (io), 99 GPIOB_47 (io), 100 GPIOB_48 (io), 101 GPIOB_49 (io), 102 GPIOB_50 (io), 103 GPIOB_51 (io), 104 GPIOB_52 (io)
part C pins: 32 5V_In (power), 47 VCC_5V_Ch1 (power), 48 VCC_3.3V_Ch1 (power), 49 VCC_5V_Ch2 (power), 50 VCC_3.3V_Ch2 (power), 51 VCC_5V_Ch3 (power), 52 VCC_3.3V_Ch3 (power), 77 VCC_5V_main (power), 78 VCC_5V_main (power), 79 VCC_3.3V_main (power), 80 VCC_3.3V_main (power), 81 GND (power), 82 GND (power), 83 AGND (power), 84 GND (power), 97 Vbat (power), 98 Vbat (power)

## PC-104-CSBM
designator X?, comment PC-104
PC-104 simplified connector; Order: *PC-104; System: Connector
footprint PC-104 (PC104)
pins: 47 VCC (power), 48 VCC (power), 49 VCC (power), 50 VCC (power), 51 VCC (power), 52 VCC (power), 81 GND (power), 82 GND (power), 84 GND (power), 97 Vbat (power), 98 Vbat (power), 101 SDA (oc), 102 SCL (oc), 103 I2C_VCC (power)

## PC-104_SamSpace
designator X?, comment PC-104
SamSpace; Order: *PC-104; System: Connector
footprint HDR2X13 (Connector; Header; 13x2 Position)
signal-integrity model Connector
footprint PC-104 (PC104)
part A pins: 1 SDA1, 2 SCL1, 3 DIO, 4 DIO, 5 DIO, 6 DIO, 7 DIO, 8 DIO, 9 DIO, 10 DIO, 11 DIO, 12 DIO, 13 DIO, 14 DIO, 15 DIO, 16 DIO, 17 DIO, 18 DIO, 19 RX0, 20 TX0, 21 SCK1, 22 MISO1, 23 MOSI1, 24 SS1, 25, 26
part B pins: 27, 28, 29, 30, 31, 32 +5V_USB, 33, 34, 35, 36, 37, 38, 39, 40, 41 SDA0, 42, 43 SCL0, 44, 45, 46, 47 user0, 48 user1, 49 user2, 50 user3, 51 user4, 52 user5
part C pins: 53 ADC7, 54 ADC6, 55 ADC5, 56 ADC4, 57 ADC3, 58 ADC2, 59 ADC1, 60 ADC0, 61, 62, 63, 64, 65, 66, 67, 68, 69, 70, 71, 72, 73, 74, 75, 76, 77 +5V, 78 +5V
part D pins: 79 +3.3V, 80 +3.3V, 81 DGND, 82 DGND, 83 AGND, 84 DGND, 85, 86, 87, 88, 89, 90, 91, 92, 93, 94, 95, 96, 97 VBAT, 98 VBAT, 99 user6, 100 user7, 101 SDA1, 102 SCL1, 103 user10, 104 user11

## pin
designator X?  (value not drawn)  (no BOM)
Order: NONE; System: Connector
footprint 24.243 (Banan_Deltron_571-0100)
footprint PIN_0.5mm_0.8mm (Hole diam, out size diam)
footprint PIN_0.7mm_1.0mm (Hole diam, out size diam)
footprint PIN_0.9mm_3.0mm (Hole diam, out size diam)
footprint PIN_1.0mm_2.0mm (Hole diam, out size diam)
footprint PIN_1.5mm_2.5mm
footprint PIN_2.0mm_3.0mm
footprint PIN_3.0mm_5.0mm (Hole diam, out size diam)
footprint PIN_6.0mm_10.0mm (Hole diam, out size diam)
pins: 1 (hiz)

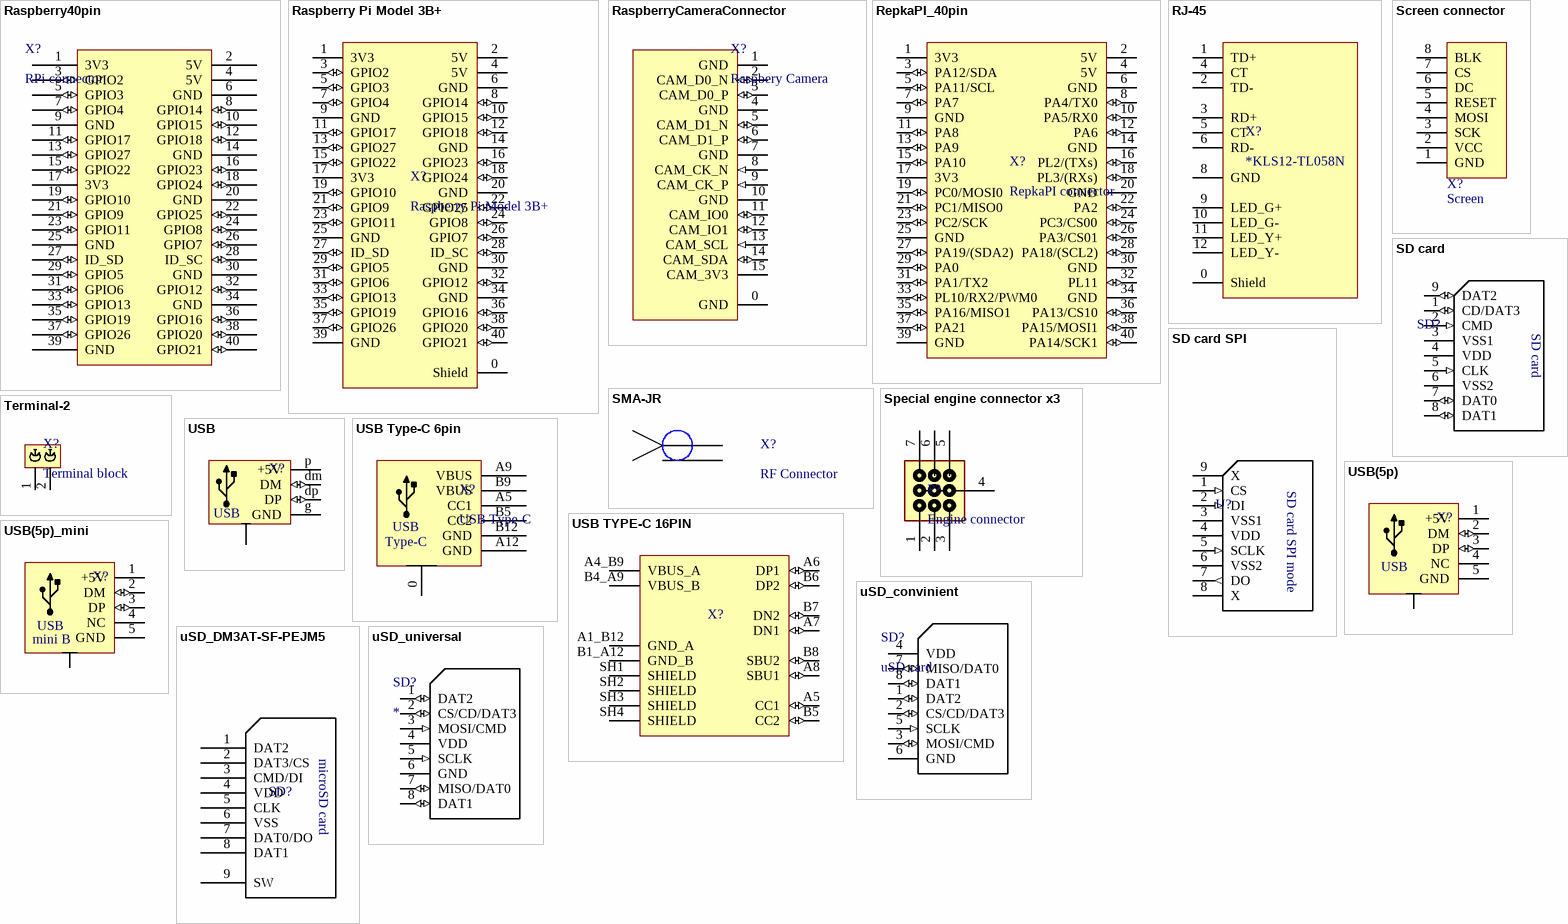
[diagram p3: symbols Raspberry40pin to uSD_universal]

## Raspberry40pin
designator X?, comment RPi connector
Order: *; System: Connector
footprint PLD40 (Footprint not found)
pins: 1 3V3 (power), 2 5V (power), 3 GPIO2 (io), 4 5V (power), 5 GPIO3 (io), 6 GND (power), 7 GPIO4 (io), 8 GPIO14 (io), 9 GND (power), 10 GPIO15 (io), 11 GPIO17 (io), 12 GPIO18 (io), 13 GPIO27 (io), 14 GND (power), 15 GPIO22 (io), 16 GPIO23 (io), 17 3V3 (power), 18 GPIO24 (io), 19 GPIO10 (io), 20 GND (power), 21 GPIO9 (io), 22 GPIO25 (io), 23 GPIO11 (io), 24 GPIO8 (io), 25 GND (power), 26 GPIO7 (io), 27 ID_SD (io), 28 ID_SC (io), 29 GPIO5 (io), 30 GND (power), 31 GPIO6 (io), 32 GPIO12 (io), 33 GPIO13 (io), 34 GND (power), 35 GPIO19 (io), 36 GPIO16 (io), 37 GPIO26 (io), 38 GPIO20 (io), 39 GND (power), 40 GPIO21 (io)

## Raspberry Pi Model 3B+
designator X?
Raspberry Pi Model 3B+ connector; Order: *; System: Connector
footprint PBD-40-2.54
footprint PBD-40-2.54 Raspberry Pi Model 3B
footprint PBD-40-R-2.54 raspberry Pi Model 3B
footprint PBD-40-R-2.54
pins: 0 Shield, 1 3V3 (power), 2 5V (power), 3 GPIO2 (io), 4 5V (power), 5 GPIO3 (io), 6 GND (power), 7 GPIO4 (io), 8 GPIO14 (io), 9 GND (power), 10 GPIO15 (io), 11 GPIO17 (io), 12 GPIO18 (io), 13 GPIO27 (io), 14 GND (power), 15 GPIO22 (io), 16 GPIO23 (io), 17 3V3 (power), 18 GPIO24 (io), 19 GPIO10 (io), 20 GND (power), 21 GPIO9 (io), 22 GPIO25 (io), 23 GPIO11 (io), 24 GPIO8 (io), 25 GND (power), 26 GPIO7 (io), 27 ID_SD (io), 28 ID_SC (io), 29 GPIO5 (io), 30 GND (power), 31 GPIO6 (io), 32 GPIO12 (io), 33 GPIO13 (io), 34 GND (power), 35 GPIO19 (io), 36 GPIO16 (io), 37 GPIO26 (io), 38 GPIO20 (io), 39 GND (power), 40 GPIO21 (io)

## RaspberryCameraConnector
designator X?, comment Raspbery Camera
Raspbery Pi Camera connector; System: Connector
footprint RPiCamCon (Footprint not found)
pins: 0 GND (hiz), 1 GND (power), 2 CAM_D0_N (io), 3 CAM_D0_P (io), 4 GND (power), 5 CAM_D1_N (io), 6 CAM_D1_P (io), 7 GND (power), 8 CAM_CK_N (in), 9 CAM_CK_P (in), 10 GND (power), 11 CAM_IO0 (io), 12 CAM_IO1 (io), 13 CAM_SCL (in), 14 CAM_SDA (io), 15 CAM_3V3 (power)

## RepkaPI_40pin
designator X?, comment RepkaPI connector
Order: *; System: Connector
footprint PLD40 (Footprint not found)
pins: 1 3V3 (power), 2 5V (power), 3 PA12/SDA (io), 4 5V (power), 5 PA11/SCL (io), 6 GND (power), 7 PA7 (io), 8 PA4/TX0 (io), 9 GND (power), 10 PA5/RX0 (io), 11 PA8 (io), 12 PA6 (io), 13 PA9 (io), 14 GND (power), 15 PA10 (io), 16 PL2/(TXs) (io), 17 3V3 (power), 18 PL3/(RXs) (io), 19 PC0/MOSI0 (io), 20 GND (power), 21 PC1/MISO0 (io), 22 PA2 (io), 23 PC2/SCK (io), 24 PC3/CS00 (io), 25 GND (power), 26 PA3/CS01 (io), 27 PA19/(SDA2) (io), 28 PA18/(SCL2) (io), 29 PA0 (io), 30 GND (power), 31 PA1/TX2 (io), 32 PL11 (io), 33 PL10/RX2/PWM0 (io), 34 GND (power), 35 PA16/MISO1 (io), 36 PA13/CS10 (io), 37 PA21 (io), 38 PA15/MOSI1 (io), 39 GND (power), 40 PA14/SCK1 (io)

## RJ-45
designator X?, comment *KLS12-TL058N
RJ-45 with led and transformer; System: Connector; Order: *KLS12-TL058N
footprint KLS12-TL058N (Footprint not found)
pins: 0 Shield, 1 TD+, 2 TD-, 3 RD+, 4 CT, 5 CT, 6 RD-, 8 GND, 9 LED_G+, 10 LED_G-, 11 LED_Y+, 12 LED_Y-

## Screen connector
designator X?, comment Screen
Module ST7735 / ST7789 Screen connector; Order: =Footprint; System: Connector
footprint CWF-8
pins: 1 GND, 2 VCC, 3 SCK, 4 MOSI, 5 RESET, 6 DC, 7 CS, 8 BLK

## SD card
designator SD?  (value not drawn)
SD CARD SLOT; System: Connector; Order: *
footprint SD Card
pins: 1 CD/DAT3 (io), 2 CMD (in), 3 VSS1 (power), 4 VDD (power), 5 CLK (in), 6 VSS2 (power), 7 DAT0 (io), 8 DAT1 (io), 9 DAT2 (io)

## SD card SPI
designator U?  (value not drawn)
SD Card Pad; System: Connector; Order: *
footprint SD Card
pins: 1 CS (in), 2 DI (in), 3 VSS1 (power), 4 VDD (power), 5 SCLK (in), 6 VSS2 (power), 7 DO (out), 8 X, 9 X
text: SD card SPI mode

## SMA-JR
designator X?, comment RF Connector
SMA Connector, Angled; Order: *KLS1-SMA002-B; System: Connector
footprint SMA-JR
pins: 0 (hiz), 1 (hiz)

## Special engine connector x3
designator P?, comment Engine connector
Connector with common power and ground; Order: *; System: Connector
pins: 1 (hiz), 2 (hiz), 3 (hiz), 4 (hiz), 5 (hiz), 6 (hiz), 7 (hiz)

## Terminal-2
designator X?, comment Terminal block
System: Connector; Order: *
footprint 301-021 (ABOVE) (301-021 Компонент над медью)
footprint 301-021 (BELOW) (301-021 Компонент под медью)
pins: 1 (hiz), 2 (hiz)

## USB
designator X?, comment USB con  (value not drawn)
USB 4-pin connector; Order: *; System: Connector
footprint USBB-1J
footprint USB-B
pins: 0 (power), dm DM (io), dp DP (io), g GND (power), p +5V (power)

## USB Type-C 6pin
designator X?, comment USB Type-C
Order: *TYPE-C 6P(073); System: Connector
footprint TYPE-C 6P (Footprint not found)
pins: 0 (power), A5 CC1, A9 VBUS, A12 GND, B5 CC2, B9 VBUS, B12 GND
text: USB; Type-C

## USB TYPE-C 16PIN
designator X?, comment *TYPE-C 16PIN 2MD[073]  (value not drawn)
USB Type-C simplified connector for USB 2.0; Order: *TYPE-C 16PIN 2MD[073]; System: Connector
footprint USB_TYPE-C_16PIN_2MD_(073) (Footprint not found)
pins: A1_B12 GND_A (power), A4_B9 VBUS_A (power), A5 CC1 (io), A6 DP1 (io), A7 DN1 (io), A8 SBU1 (io), B1_A12 GND_B (power), B4_A9 VBUS_B (power), B5 CC2 (io), B6 DP2 (io), B7 DN2 (io), B8 SBU2 (io), SH1 SHIELD, SH2 SHIELD, SH3 SHIELD, SH4 SHIELD

## USB(5p)
designator X?, comment USB 5p  (value not drawn)
USB 5-pin connector; Order: =Footprint; System: Connector
footprint USB/SM0.8-4H5
footprint USB-Micro-B
pins: 1 +5V (power), 2 DM (io), 3 DP (io), 4 NC, 5 GND (power), MH4 (power)
text: USB

## USB(5p)_mini
designator X?, comment USB 5p  (value not drawn)
USB 5-pin connector; Order: =Footprint; System: Connector
footprint USB/SM0.8-4H5
pins: 1 +5V (power), 2 DM (io), 3 DP (io), 4 NC, 5 GND (power), MH4 (power)
text: USB; mini B

## uSD_convinient
designator SD?, comment uSD card
System: Connector; Order: *
footprint Micro SD slot
pins: 1 DAT2 (io), 2 CS/CD/DAT3 (io), 3 MOSI/CMD (io), 4 VDD (power), 5 SCLK (in), 6 GND (power), 7 MISO/DAT0 (io), 8 DAT1 (io)

## uSD_DM3AT-SF-PEJM5
designator SD?, comment uSD CARD  (value not drawn)
uSD CARD SLOT; System: Connector; Order: *
footprint microSd
pins: 1 DAT2, 2 DAT3/CS, 3 CMD/DI, 4 VDD, 5 CLK, 6 VSS, 7 DAT0/DO, 8 DAT1, 9 SW, 10 SWa

## uSD_universal
designator SD?
System: Connector; Order: *
footprint Micro SD slot
pins: 1 DAT2 (io), 2 CS/CD/DAT3 (io), 3 MOSI/CMD (in), 4 VDD (power), 5 SCLK (in), 6 GND (power), 7 MISO/DAT0 (io), 8 DAT1 (io)